# EAGLE library part AS1106 (library ArdDisp)
AS1106W pro Helebranta 16-7-2012 Austriamicrosystems
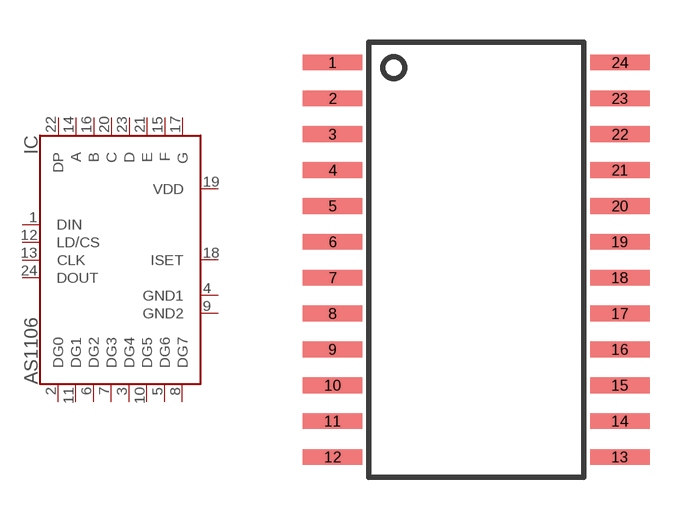
[diagram p0: symbol with the pads of SO24W; footprint SO24W]

Designator prefix IC

## AS1106W  [SO24W]
1  DIN
2  DG0  pas
3  DG4  pas
4  GND1
5  DG6  pas
6  DG2  pas
7  DG3  pas
8  DG7  pas
9  GND2
10  DG5  pas
11  DG1  pas
12  LD/CS
13  CLK
14  A  pas
15  F  pas
16  B  pas
17  G  pas
18  ISET
19  VDD
20  C  pas
21  E  pas
22  DP  pas
23  D  pas
24  DOUT  out

## Footprint SO24W (pad centres in mm)
Pady jsou v mil/12.5
smd 2.108 x 0.559: 1 -5.08,6.985; 2 -5.08,5.715; 3 -5.08,4.445; 4 -5.08,3.175; 5 -5.08,1.905; 6 -5.08,0.635; 7 -5.08,-0.635; 8 -5.08,-1.905; 9 -5.08,-3.175; 10 -5.08,-4.445; 11 -5.08,-5.715; 12 -5.08,-6.985; 13 5.08,-6.985; 14 5.08,-5.715; 15 5.08,-4.445; 16 5.08,-3.175; 17 5.08,-1.905; 18 5.08,-0.635; 19 5.08,0.635; 20 5.08,1.905; 21 5.08,3.175; 22 5.08,4.445; 23 5.08,5.715; 24 5.08,6.985